# EAGLE library part PIN_3X5 (library QADT)
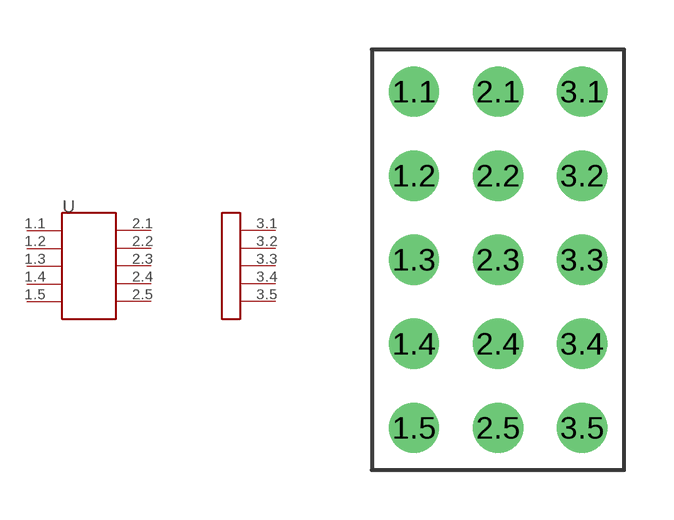
[diagram p5: symbol with the pads of PIN_3X5; footprint PIN_3X5]

Designator prefix -

## PIN_3X5  [PIN_3X5]
1.1  1.1
1.2  1.2
1.3  1.3
1.4  1.4
1.5  1.5
2.1  2.1
2.2  2.2
2.3  2.3
2.4  2.4
2.5  2.5
3.1  3.1
3.2  3.2
3.3  3.3
3.4  3.4
3.5  3.5

## Footprint PIN_3X5 (pad centres in mm)
drill 1.016: 1.1 0,5.08; 1.2 0,2.54; 1.3 0,0; 1.4 0,-2.54; 1.5 0,-5.08; 2.1 2.54,5.08; 2.2 2.54,2.54; 2.3 2.54,0; 2.4 2.54,-2.54; 2.5 2.54,-5.08; 3.1 5.08,5.08; 3.2 5.08,2.54; 3.3 5.08,0; 3.4 5.08,-2.54; 3.5 5.08,-5.08